# Altium schematic symbol library Drosel.SchLib: 57 symbols
Pins are listed as number, name and electrical type; pins without a type are passive.

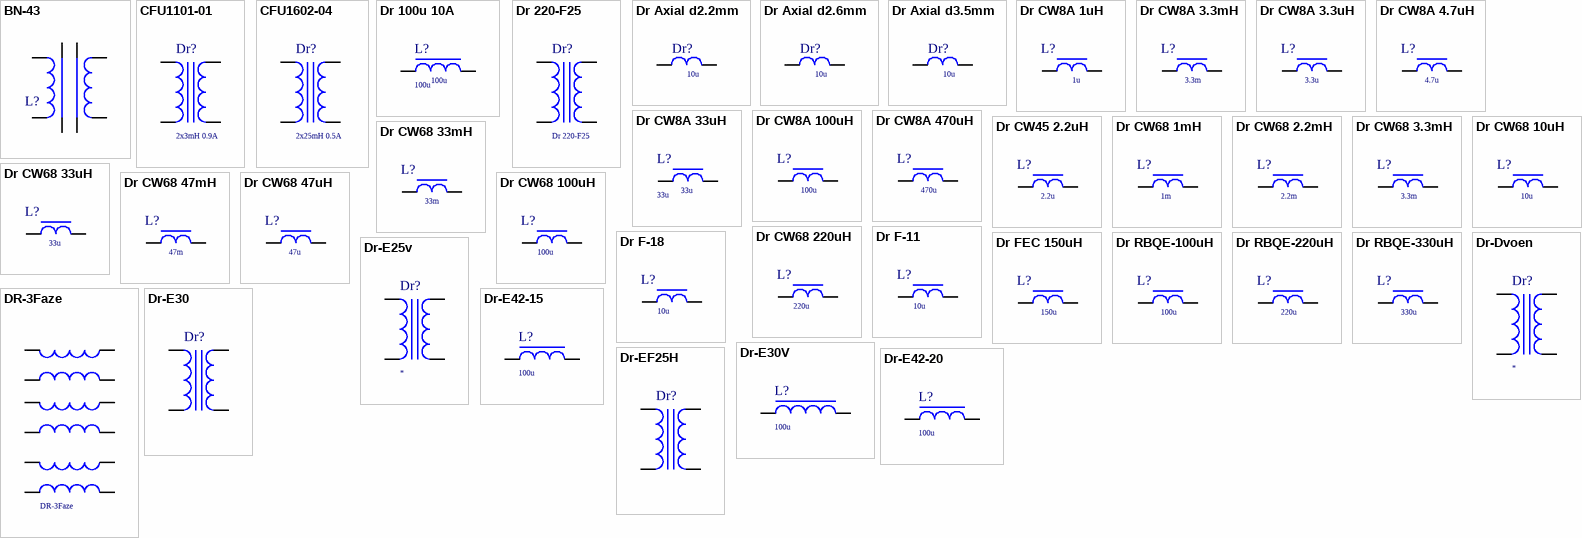
[diagram p0: symbols BN-43 to Dr-EF25H]

## BN-43
designator L?  (value not drawn)
footprint BN-43-1502
pins: 1, 2, 3, 4, 5, 6, 7, 8

## CFU1101-01
designator Dr?, comment 2x3mH 0.9A
Price: 1.2
footprint CFU1101
pins: 1, 2, 3, 4

## CFU1602-04
designator Dr?, comment 2x25mH 0.5A
Price: 1.2
footprint CFU1602
pins: 1, 2, 3, 4

## Dr 100u 10A
designator L?, comment 100u
50x22; Price: 0.87; Value: 100u
footprint DR-10A 50x22
simulation model Model Name (Model Description)
signal-integrity model Model Name (Model Description)
pins: 1, 2

## Dr 220-F25
designator Dr?
footprint DR-220-F25-1
footprint DR-220-F25-2
footprint DR-220-F25-3
pins: 1, 2, 3, 4

## Dr Axial d2.2mm
designator Dr?, comment 10u
Price: 0.1; Value: 10u
footprint Dr Axial d2.2mm-200
simulation model Model Name (Model Description)
footprint Dr Axial d2.2mm-300
pins: 1, 2

## Dr Axial d2.6mm
designator Dr?, comment 10u
Price: 0.1; Value: 10u
footprint Dr Axial d2.6mm-200
simulation model Model Name (Model Description)
footprint Dr Axial d2.6mm-300
pins: 1, 2

## Dr Axial d3.5mm
designator Dr?, comment 10u
Price: 0.1; Value: 10u
simulation model Model Name (Model Description)
footprint Dr Axial d3.5mm-400
pins: 1, 2

## Dr CW8A 1uH
designator L?, comment 1u
7.2A 0.01om; Price: 0.25; Value: 1u
footprint Dr-CW8A
simulation model Model Name (Model Description)
pins: 1, 2

## Dr CW8A 3.3mH
designator L?, comment 3.3m
210mA 5om; Price: 0.25; Value: 3.3m
footprint Dr-CW8A
simulation model Model Name (Model Description)
pins: 1, 2

## Dr CW8A 3.3uH
designator L?, comment 3.3u
5.8A 0.012om; Price: 0.25; Value: 3.3u
footprint Dr-CW8A
simulation model Model Name (Model Description)
pins: 1, 2

## Dr CW8A 4.7uH
designator L?, comment 4.7u
5.1A 0.015om; Price: 0.25; Value: 4.7u
footprint Dr-CW8A
simulation model Model Name (Model Description)
pins: 1, 2

## Dr CW8A 33uH
designator L?, comment 33u
2A 0.07om; Price: 0.25; Value: 33u
footprint Dr-CW8A
simulation model Model Name (Model Description)
pins: 1, 2

## Dr CW8A 100uH
designator L?, comment 100u
1.1A 0.18om; Price: 0.25; Value: 100u
footprint Dr-CW8A
simulation model Model Name (Model Description)
pins: 1, 2

## Dr CW8A 470uH
designator L?, comment 470u
0.56A 0.71om; Price: 0.25; Value: 470u
footprint Dr-CW8A
simulation model Model Name (Model Description)
pins: 1, 2

## Dr CW45 2.2uH
designator L?, comment 2.2u
2.5A 0.0436om; Price: 0.12; Value: 2.2u
footprint DR-CW45
simulation model Model Name (Model Description)
pins: 1, 2

## Dr CW68 1mH
designator L?, comment 1m
0.2A 2.52om; Price: 0.17; Value: 1m
footprint DR-CW68-100
simulation model Model Name (Model Description)
pins: 1, 2

## Dr CW68 2.2mH
designator L?, comment 2.2m
0.14A 6om; Price: 0.17; Value: 2.2m
footprint DR-CW68-100
simulation model Model Name (Model Description)
pins: 1, 2

## Dr CW68 3.3mH
designator L?, comment 3.3m
110mA 8.4om; Price: 0.17; Value: 3.3m
footprint DR-CW68-100
simulation model Model Name (Model Description)
pins: 1, 2

## Dr CW68 10uH
designator L?, comment 10u
1.3A 0.1om; Price: 0.17; Value: 10u
footprint DR-CW68-100
simulation model Model Name (Model Description)
pins: 1, 2

## Dr CW68 33mH
designator L?, comment 33m
30mA 93om; Price: 0.17; Value: 33m
footprint DR-CW68-100
simulation model Model Name (Model Description)
pins: 1, 2

## Dr CW68 33uH
designator L?, comment 33u
1A 0.1om; Price: 0.17; Value: 33u
footprint DR-CW68-100
simulation model Model Name (Model Description)
pins: 1, 2

## Dr CW68 47mH
designator L?, comment 47m
35mA 120om; Price: 0.17; Value: 47m
footprint DR-CW68-100
simulation model Model Name (Model Description)
pins: 1, 2

## Dr CW68 47uH
designator L?, comment 47u
0.8A 0.14om; Price: 0.17; Value: 47u
footprint DR-CW68-100
simulation model Model Name (Model Description)
pins: 1, 2

## Dr CW68 100uH
designator L?, comment 100u
0.64A 0.26om; Price: 0.17; Value: 100u
footprint DR-CW68-100
simulation model Model Name (Model Description)
pins: 1, 2

## Dr CW68 220uH
designator L?, comment 220u
0.43A 0.6om; Price: 0.17; Value: 220u
footprint DR-CW68-100
simulation model Model Name (Model Description)
pins: 1, 2

## Dr F-11
designator L?, comment 10u
Ô-11mm d-2mm; Price: 0.17; Value: 10u
footprint Dr-f11
simulation model Model Name (Model Description)
pins: 1, 2

## Dr F-18
designator L?, comment 10u
Ô-18mm d-2mm; Price: 0.17; Value: 10u
footprint L-F18
simulation model Model Name (Model Description)
pins: 1, 2

## Dr FEC 150uH
designator L?, comment 150u
1.1A 0.18om; Price: 0.25; Value: 150u
footprint Dr-FEC 150uH (Footprint not found)
simulation model Model Name (Model Description)
pins: 1, 2

## Dr RBQE-100uH
designator L?, comment value 100u  (hidden comment: 0.87)
3A; Price: 0.87
footprint DR-CL-RBQE
simulation model Model Name (Model Description)
pins: 1, 2

## Dr RBQE-220uH
designator L?, comment 220u
3A; Price: 0.87; Value: 220u
footprint DR-CL-RBQE
simulation model Model Name (Model Description)
pins: 1, 2

## Dr RBQE-330uH
designator L?, comment value 330u  (hidden comment: 0.87)
1A; Price: 0.87
footprint DR-CL-RBQE
simulation model Model Name (Model Description)
footprint T-68-1
footprint T-68-2
pins: 1, 2

## DR-3Faze
designator ?
footprint DR-3Faze
pins: 1, 2, 3, 4, 5, 6, 7, 8, 9, 10, 11, 12

## Dr-Dvoen
designator Dr?
footprint DR-220-6 (Model Description)
pins: 1, 2, 3, 4

## Dr-E25v
designator Dr?
footprint EF25H (Footprint not found)
pins: 1, 2, 3, 4

## Dr-E30
designator Dr?
footprint E30-12
pins: 1, 2, 5, 6, 7, 8, 11, 12

## Dr-E30V
designator L?, comment 100u
Dr-E30V; Value: 100u
footprint E30-1V
simulation model Model Name (Model Description)
pins: 1, 2

## Dr-E42-15
designator L?, comment 100u
Value: 100u
footprint SP-E 42x15 10Pin
simulation model Model Name (Model Description)
pins: 1, 2, 3, 4, 5, 6, 7, 8, 9, 10

## Dr-E42-20
designator L?, comment 100u
Value: 100u
footprint SP-E 42x20 14Pin
simulation model Model Name (Model Description)
pins: 1, 2, 3, 4, 5, 6, 7, 8, 9, 10, 11, 12, 13, 14

## Dr-EF25H
designator Dr?
footprint EF25H
pins: 1, 4, 5, 8

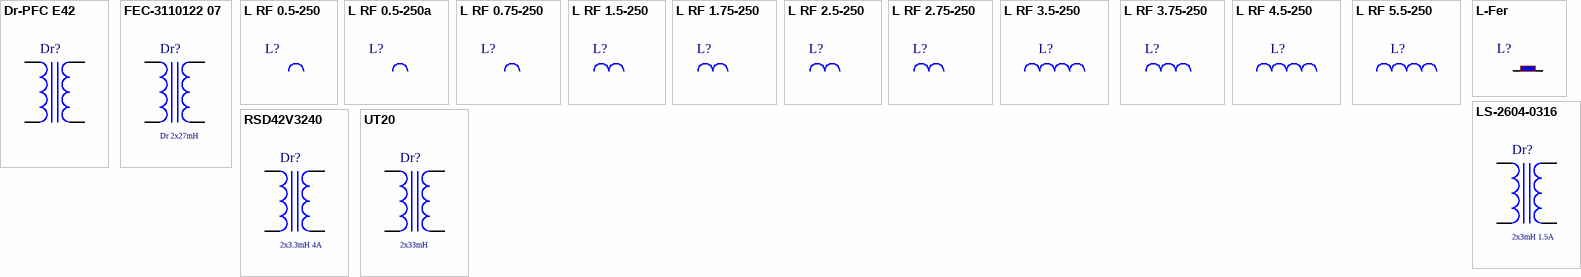
[diagram p1: symbols Dr-PFC E42 to UT20]

## Dr-PFC E42
designator Dr?
footprint E42-V-04
pins: 1, 2, 3, 4

## FEC-3110122 07
designator Dr?, comment Dr 2x27mH
2x27mH 0.4A; Price: 1.41
footprint FEC 3110122
pins: 1, 2, 3, 4

## L RF 0.5-250
designator L?, comment 1u  (value not drawn)
Value: 1u; Price: 0.25
simulation model Model Name (Model Description)
footprint L RF 0.5-250
footprint L RF 0.5-250r
pins: 1, 2

## L RF 0.5-250a
designator L?, comment 1u  (value not drawn)
Value: 1u; Price: 0.25
simulation model Model Name (Model Description)
footprint L RF 0.5-250a
pins: 1, 2

## L RF 0.75-250
designator L?, comment 1u  (value not drawn)
Value: 1u; Price: 0.25
simulation model Model Name (Model Description)
footprint L RF 0.75-250
footprint L RF 0.75-250r
pins: 1, 2

## L RF 1.5-250
designator L?, comment 1u  (value not drawn)
Value: 1u; Price: 0.25
simulation model Model Name (Model Description)
footprint L RF 1.5-250
footprint L RF 1.5-250r
pins: 1, 2

## L RF 1.75-250
designator L?, comment 1u  (value not drawn)
Value: 1u; Price: 0.25
simulation model Model Name (Model Description)
footprint L RF 1.75-250
footprint L RF 1.75-250r
pins: 1, 2

## L RF 2.5-250
designator L?, comment 110n  (value not drawn)
Value: 110n; Price: 0.25
simulation model Model Name (Model Description)
footprint L RF 2.5-250
footprint L RF 2.5-250r
pins: 1, 2

## L RF 2.75-250
designator L?, comment 110n  (value not drawn)
Value: 110n; Price: 0.25
simulation model Model Name (Model Description)
footprint L RF 2.75-250
footprint L RF 2.75-250r
pins: 1, 2

## L RF 3.5-250
designator L?, comment 80n  (value not drawn)
Value: 80n; Price: 0.25
simulation model Model Name (Model Description)
footprint L RF 3.5-250
footprint L RF 3.5-250r
pins: 1, 2
1 alternate drawing of the same symbol

## L RF 3.75-250
designator L?, comment 80n  (value not drawn)
Value: 80n; Price: 0.25
simulation model Model Name (Model Description)
footprint L RF 3.75-250
footprint L RF 3.75-250r
pins: 1, 2
2 alternate drawings of the same symbol

## L RF 4.5-250
designator L?, comment 110n  (value not drawn)
Value: 110n; Price: 0.25
simulation model Model Name (Model Description)
footprint L RF 4.5-250
footprint L RF 4.5-250r
pins: 1, 2

## L RF 5.5-250
designator L?, comment 110n  (value not drawn)
Value: 110n; Price: 0.25
simulation model Model Name (Model Description)
footprint L RF 5.5-250
footprint L RF 5.5-250r
pins: 1, 2

## L-Fer
designator L?, comment 1u  (value not drawn)
Value: 1u
simulation model Model Name (Model Description)
footprint L2-3mm-200
footprint L2-6.6mm-300
footprint L2-6.6mm-600
pins: 1, 2

## LS-2604-0316
designator Dr?, comment 2x3mH 1.5A
2x3mH  1.5A; Price: 1.2
footprint CFU1602
pins: 1, 2, 3, 4

## RSD42V3240
designator Dr?, comment 2x3.3mH 4A
footprint RSD42V3240
pins: 1, 2, 3, 4

## UT20
designator Dr?, comment 2x33mH
2x33mH 0.3A; Price: 1.2
footprint UT20
pins: 1, 2, 3, 4